# Altium footprint library MLACH0_9.PCBLIB: 97 footprints (part 5 of 7)
Each footprint in its own frame and in the unit in brackets; x right, y up, seen from the top. Pads: shape width x height; smd on the part's side, far side on the other; paste and mask are expansions set on the pad; w line width, h text height; cw(c..) or ccw(c..) is an arc to the next point about the centre after c.
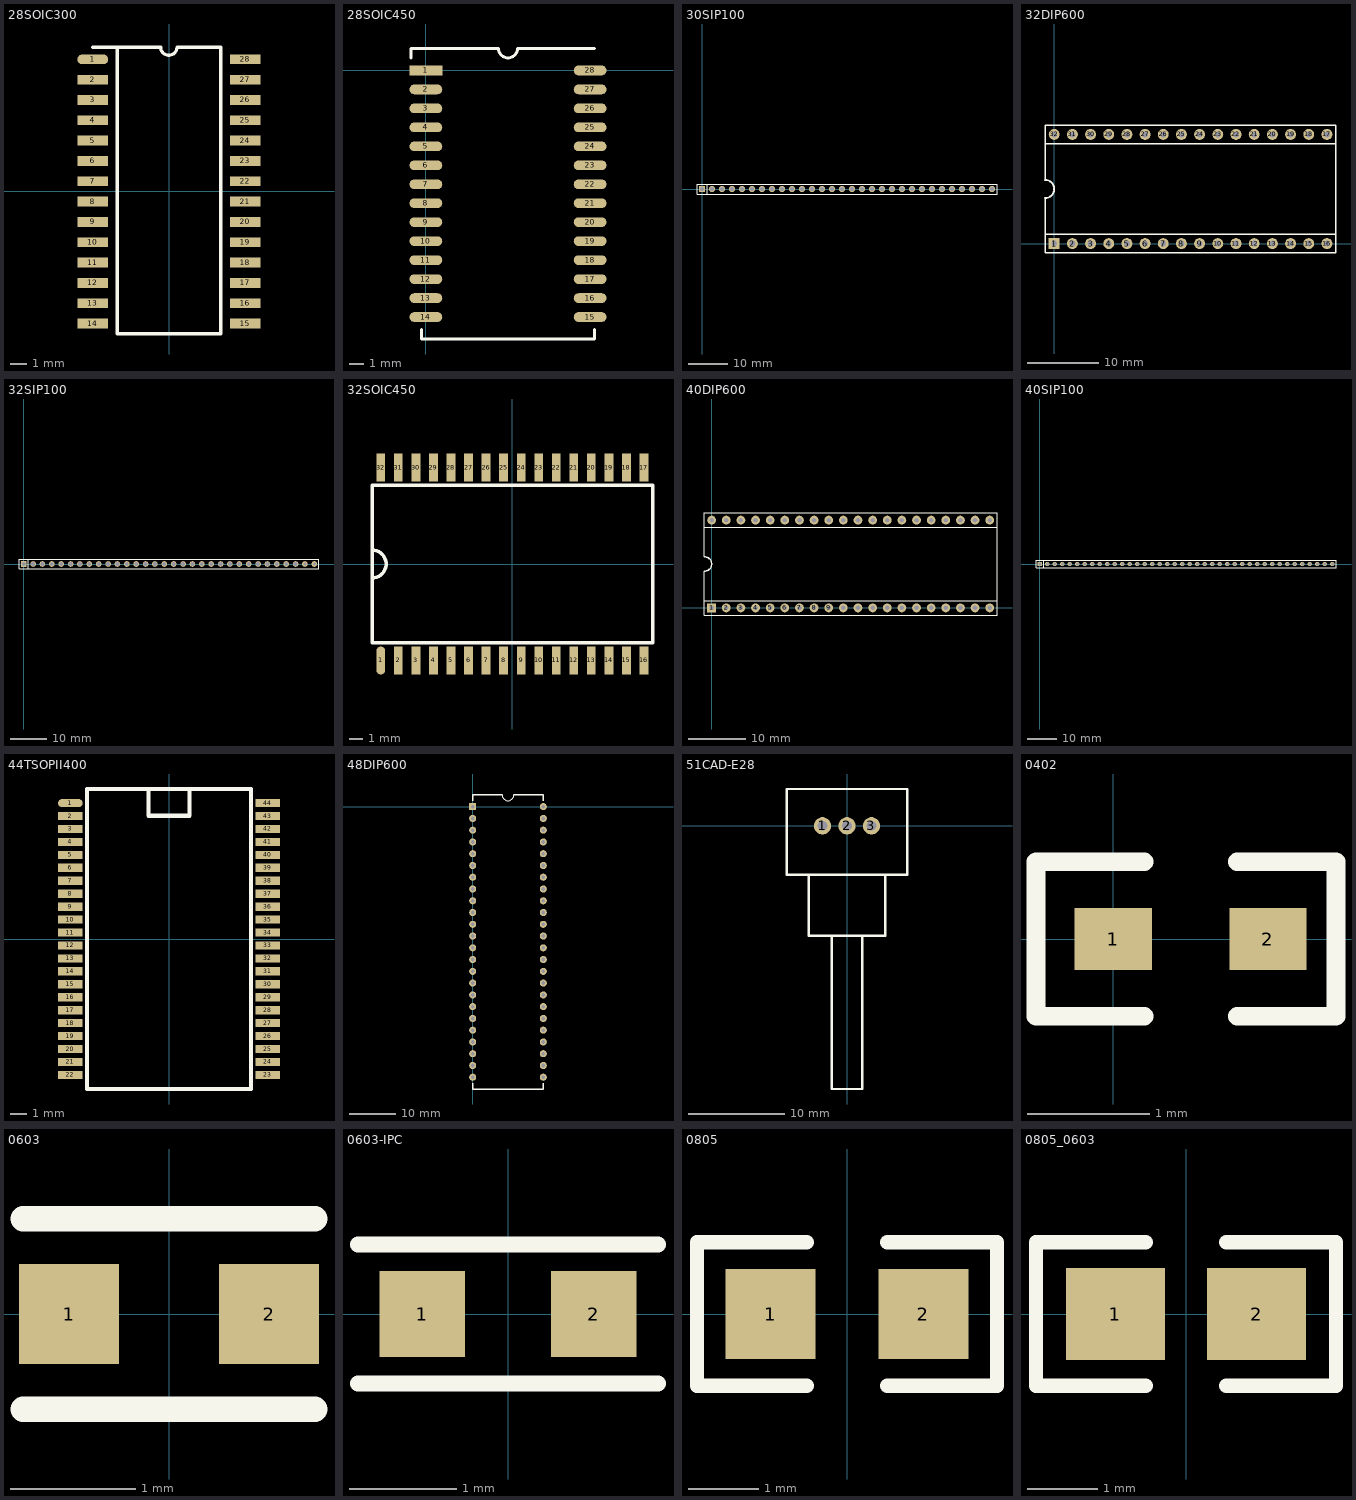
[diagram p4: the footprints below, top view; thin cyan lines are the x and y axes]

## 28SOIC300 [mil]
pads (28):
  oval 76x24 smd: 1(-187.5,325)
  rect 76x24 smd: 2(-187.5,275) 3(-187.5,225) 4(-187.5,175) 5(-187.5,125) 6(-187.5,75) 7(-187.5,25) 8(-187.5,-25) 9(-187.5,-75) 10(-187.5,-125) 11(-187.5,-175) 12(-187.5,-225) 13(-187.5,-275) 14(-187.5,-325) 15(187.5,-325) 16(187.5,-275) 17(187.5,-225) 18(187.5,-175) 19(187.5,-125) 20(187.5,-75) 21(187.5,-25) 22(187.5,25) 23(187.5,75) 24(187.5,125) 25(187.5,175) 26(187.5,225) 27(187.5,275) 28(187.5,325)
TopOverlay:
  lines w8: -187.5,355 -20.5,355 ccw(c-0.5,355) 19.5,355 127.5,355 127.5,-350 -127.5,-350 -127.5,355
3D body: height 39.37, standoff 0, extent 147.64,15.31 202.76,35
3D body: height 39.37, standoff 0, extent 147.64,315.31 202.76,335
3D body: height 39.37, standoff 0, extent 147.64,265.31 202.76,285
3D body: height 39.37, standoff 0, extent 147.64,215.31 202.76,235
3D body: height 39.37, standoff 0, extent 147.64,165.31 202.76,185
3D body: height 39.37, standoff 0, extent 147.64,115.31 202.76,135
3D body: height 39.37, standoff 0, extent 147.64,65.31 202.76,85
3D body: height 39.37, standoff 0, extent 147.64,-34.69 202.76,-15
3D body: height 39.37, standoff 0, extent 147.64,-84.69 202.76,-65
3D body: height 39.37, standoff 0, extent 147.64,-134.69 202.76,-115
3D body: height 39.37, standoff 0, extent 147.64,-184.69 202.76,-165
3D body: height 39.37, standoff 0, extent 147.64,-234.69 202.76,-215
3D body: height 39.37, standoff 0, extent 147.64,-284.69 202.76,-265
3D body: height 39.37, standoff 0, extent 147.64,-284.69 202.76,-265
3D body: height 39.37, standoff 0, extent 147.64,-334.69 202.76,-315
3D body: height 39.37, standoff 0, extent -202.76,-334.69 -147.64,-315
3D body: height 39.37, standoff 0, extent -202.76,-284.69 -147.64,-265
3D body: height 39.37, standoff 0, extent -202.76,-284.69 -147.64,-265
3D body: height 39.37, standoff 0, extent -202.76,-234.69 -147.64,-215
3D body: height 39.37, standoff 0, extent -202.76,-184.69 -147.64,-165
3D body: height 39.37, standoff 0, extent -202.76,-134.69 -147.64,-115
3D body: height 39.37, standoff 0, extent -202.76,-84.69 -147.64,-65
3D body: height 39.37, standoff 0, extent -202.76,-34.69 -147.64,-15
3D body: height 39.37, standoff 0, extent -202.76,65.31 -147.64,85
3D body: height 39.37, standoff 0, extent -202.76,115.31 -147.64,135
3D body: height 39.37, standoff 0, extent -202.76,165.31 -147.64,185
3D body: height 39.37, standoff 0, extent -202.76,215.31 -147.64,235
3D body: height 39.37, standoff 0, extent -202.76,265.31 -147.64,285
3D body: height 39.37, standoff 0, extent -202.76,315.31 -147.64,335
3D body: height 39.37, standoff 0, extent -202.76,15.31 -147.64,35
3D body: height 82.68, standoff 0, extent -147.64,-354.33 147.64,354.33

## 28SOIC450 [mm]
pads (28):
  rect 2.2x0.65 smd: 1(0,0)
  oval 2.2x0.65 smd: 2(0,-1.27) 3(0,-2.54) 4(0,-3.81) 5(0,-5.08) 6(0,-6.35) 7(0,-7.62) 8(0,-8.89) 9(0,-10.16) 10(0,-11.43) 11(0,-12.7) 12(0,-13.97) 13(0,-15.24) 14(0,-16.51) 15(11,-16.51) 16(11,-15.24) 17(11,-13.97) 18(11,-12.7) 19(11,-11.43) 20(11,-10.16) 21(11,-8.89) 22(11,-7.62) 23(11,-6.35) 24(11,-5.08) 25(11,-3.81) 26(11,-2.54) 27(11,-1.27) 28(11,0)
TopOverlay:
  lines w0.2: -1,0.825 -1,1.47 4.865,1.47 ccw(c5.5,1.47) 6.135,1.47 11.28,1.47 ; -0.28,-17.335 -0.28,-17.98 11.28,-17.98 11.28,-17.335

## 30SIP100 [mil]
pads (30):
  rect 60x60 hole 40: 1(0,0)
  round 60 hole 40: 2(100,0) 3(200,0) 4(300,0) 5(400,0) 6(500,0) 7(600,0) 8(700,0) 9(800,0) 10(900,0) 11(1000,0) 12(1100,0) 13(1200,0) 14(1300,0) 15(1400,0) 16(1500,0) 17(1600,0) 18(1700,0) 19(1800,0) 20(1900,0) 21(2000,0) 22(2100,0) 23(2200,0) 24(2300,0) 25(2400,0) 26(2500,0) 27(2600,0) 28(2700,0) 29(2800,0) 30(2900,0)
TopOverlay:
  lines w8: 50,-50 50,50 ; -50,-50 2950,-50 2950,50 -50,50 -50,-50

## 32DIP600 [mil]
pads (32):
  rect 60x60 hole 32: 1(0,0)
  round 60 hole 32: 2(100,0) 3(200,0) 4(300,0) 5(400,0) 6(500,0) 7(600,0) 8(700,0) 9(800,0) 10(900,0) 11(1000,0) 12(1100,0) 13(1200,0) 14(1300,0) 15(1400,0) 16(1500,0) 17(1500,600) 18(1400,600) 19(1300,600) 20(1200,600) 21(1100,600) 22(1000,600) 23(900,600) 24(800,600) 25(700,600) 26(600,600) 27(500,600) 28(400,600) 29(300,600) 30(200,600) 31(100,600) 32(0,600)
TopOverlay:
  lines w8: -50,250 -50,50 ; -50,350 -50,550 ; -50,50 1550,50 ; -50,50 -50,-50 1550,-50 1550,50 ; -50,550 1550,550 ; -50,550 -50,650 1550,650 1550,550 ; 1550,50 1550,550
  lines w10: -50,250 ccw(c-50,300) -50,350

## 32SIP100 [mil]
pads (32):
  rect 60x60 hole 40: 1(0,0)
  round 60 hole 40: 2(100,0) 3(200,0) 4(300,0) 5(400,0) 6(500,0) 7(600,0) 8(700,0) 9(800,0) 10(900,0) 11(1000,0) 12(1100,0) 13(1200,0) 14(1300,0) 15(1400,0) 16(1500,0) 17(1600,0) 18(1700,0) 19(1800,0) 20(1900,0) 21(2000,0) 22(2100,0) 23(2200,0) 24(2300,0) 25(2400,0) 26(2500,0) 27(2600,0) 28(2700,0) 29(2800,0) 30(2900,0)
  round 60 hole 32: 31(3000,0) 32(3100,0)
TopOverlay:
  lines w8: 50,-50 50,50 ; -50,-50 -50,50 3150,50 3150,-50 -50,-50

## 32SOIC450 [mil]
pads (32):
  oval 25x80 smd: 1(-375,-275)
  rect 25x80 smd: 2(-325,-275) 3(-275,-275) 4(-225,-275) 5(-175,-275) 6(-125,-275) 7(-75,-275) 8(-25,-275) 9(25,-275) 10(75,-275) 11(125,-275) 12(175,-275) 13(225,-275) 14(275,-275) 15(325,-275) 16(375,-275) 17(375,275) 18(325,275) 19(275,275) 20(225,275) 21(175,275) 22(125,275) 23(75,275) 24(25,275) 25(-25,275) 26(-75,275) 27(-125,275) 28(-175,275) 29(-225,275) 30(-275,275) 31(-325,275) 32(-375,275)
TopOverlay:
  lines w10: -400,-40 ccw(c-400,0) -400,40 ; -400,-225 400,-225 400,225 -400,225 -400,-225

## 40DIP600 [mil]
pads (40):
  rect 60x60 hole 32: 1(0,0)
  round 60 hole 32: 2(100,0) 3(200,0) 4(300,0) 5(400,0) 6(500,0) 7(600,0) 8(700,0) 9(800,0) 10(900,0) 11(1000,0) 12(1100,0) 13(1200,0) 14(1300,0) 15(1400,0) 16(1500,0) 17(1600,0) 18(1700,0) 19(1800,0) 20(1900,0) 21(1900,600) 22(1800,600) 23(1700,600) 24(1600,600) 25(1500,600) 26(1400,600) 27(1300,600) 28(1200,600) 29(1100,600) 30(1000,600) 31(900,600) 32(800,600) 33(700,600) 34(600,600) 35(500,600) 36(400,600) 37(300,600) 38(200,600) 39(100,600) 40(0,600)
TopOverlay:
  lines w8: -50,250 -50,50 ; -50,350 -50,550 ; -50,50 1950,50 ; -50,50 -50,-50 1950,-50 1950,50 ; -50,550 1950,550 ; -50,550 -50,650 1950,650 1950,550 ; 1950,50 1950,550
  lines w10: -50,250 ccw(c-50,300) -50,350

## 40SIP100 [mil]
pads (40):
  rect 60x60 hole 40: 1(0,0)
  round 60 hole 40: 2(100,0) 3(200,0) 4(300,0) 5(400,0) 6(500,0) 7(600,0) 8(700,0) 9(800,0) 10(900,0) 11(1000,0) 12(1100,0) 13(1200,0) 14(1300,0) 15(1400,0) 16(1500,0) 17(1600,0) 18(1700,0) 19(1800,0) 20(1900,0) 21(2000,0) 22(2100,0) 23(2200,0) 24(2300,0) 25(2400,0) 26(2500,0) 27(2600,0) 28(2700,0) 29(2800,0) 30(2900,0) 31(3000,0) 32(3100,0) 33(3200,0) 34(3300,0) 35(3400,0) 36(3500,0) 37(3600,0) 38(3700,0) 39(3800,0) 40(3900,0)
TopOverlay:
  lines w8: 50,-50 50,50 ; -50,-50 -50,50 3950,50 3950,-50 -50,-50

## 44TSOPII400 [mil]
pads (44):
  oval 60x20 smd: 1(-240.16,330.71)
  rect 60x20 smd: 2(-240.16,299.21) 3(-240.16,267.72) 4(-240.16,236.22) 5(-240.16,204.72) 6(-240.16,173.23) 7(-240.16,141.73) 8(-240.16,110.24) 9(-240.16,78.74) 10(-240.16,47.24) 11(-240.16,15.75) 12(-240.16,-15.75) 13(-240.16,-47.24) 14(-240.16,-78.74) 15(-240.16,-110.24) 16(-240.16,-141.73) 17(-240.16,-173.23) 18(-240.16,-204.72) 19(-240.16,-236.22) 20(-240.16,-267.72) 21(-240.16,-299.21) 22(-240.16,-330.71) 23(240.16,-330.71) 24(240.16,-299.21) 25(240.16,-267.72) 26(240.16,-236.22) 27(240.16,-204.72) 28(240.16,-173.23) 29(240.16,-141.73) 30(240.16,-110.24) 31(240.16,-78.74) 32(240.16,-47.24) 33(240.16,-15.75) 34(240.16,15.75) 35(240.16,47.24) 36(240.16,78.74) 37(240.16,110.24) 38(240.16,141.73) 39(240.16,173.23) 40(240.16,204.72) 41(240.16,236.22) 42(240.16,267.72) 43(240.16,299.21) 44(240.16,330.71)
TopOverlay:
  lines w10: -50,365 -50,300 50,300 50,365 ; -200,-365 -200,365 200,365 200,-365 -200,-365

## 48DIP600 [mil]
pads (48):
  rect 60x60 hole 32: 1(0,0)
  round 60 hole 32: 2(0,-100) 3(0,-200) 4(0,-300) 5(0,-400) 6(0,-500) 7(0,-600) 8(0,-700) 9(0,-800) 10(0,-900) 11(0,-1000) 12(0,-1100) 13(0,-1200) 14(0,-1300) 15(0,-1400) 16(0,-1500) 17(0,-1600) 18(0,-1700) 19(0,-1800) 20(0,-1900) 21(0,-2000) 22(0,-2100) 23(0,-2200) 24(0,-2300) 25(600,-2300) 26(600,-2200) 27(600,-2100) 28(600,-2000) 29(600,-1900) 30(600,-1800) 31(600,-1700) 32(600,-1600) 33(600,-1500) 34(600,-1400) 35(600,-1300) 36(600,-1200) 37(600,-1100) 38(600,-1000) 39(600,-900) 40(600,-800) 41(600,-700) 42(600,-600) 43(600,-500) 44(600,-400) 45(600,-300) 46(600,-200) 47(600,-100) 48(600,0)
TopOverlay:
  lines w10: 250,100 ccw(c300,100) 350,100
  lines w12: 0,-2350 0,-2400 600,-2400 600,-2350 ; 0,50 0,100 250,100 ; 350,100 600,100 600,50

## 51CAD-E28 [mm]
pads (3):
  round 1.8 hole 1: 1(-2.54,0) 2(0,0) 3(2.54,0)
TopOverlay:
  lines w0.254: -3.97,-5.08 -3.97,-11.43 3.97,-11.43 3.97,-5.08 ; -1.59,-11.43 -1.59,-27.31 1.59,-27.31 1.59,-11.43 ; -6.25,-5.08 6.25,-5.08 6.25,3.82 -6.25,3.82 -6.25,-5.08
3D body: height 13.25, standoff 0, extent -6.25,-5.08 6.25,3.82
3D body: height 10.96, standoff 3.04, extent -3.97,-11.375 3.939,-5.025
3D body: height 8.59, standoff 5.41, extent -1.59,-27.31 1.577,-11.31

## 0402 [mil]
pads (2):
  rect 25x20 smd: 1(0,0) 2(50,0)
TopOverlay:
  lines w6: 10,-25 -25,-25 -25,25 10,25 ; 40,-25 72,-25 72,25 40,25

## 0603 [mm]
pads (2):
  rect 0.8x0.8 smd: 1(-0.8,0) 2(0.8,0)
TopOverlay:
  lines w0.203: -1.168,-0.762 1.168,-0.762 ; -1.168,0.762 1.168,0.762
3D body: height 1, standoff 0, extent -0.8,-0.4 -0.3,0.4
3D body: height 1, standoff 0, extent 0.4,-0.4 0.8,0.4
3D body: height 1, standoff 0, extent -0.3,-0.4 0.4,0.4

## 0603-IPC [mm]
pads (2):
  rect 0.8x0.8 smd: 1(-0.8,0) 2(0.8,0)
TopOverlay:
  lines w0.15: -1.4,-0.65 1.4,-0.65 ; -1.4,0.65 1.4,0.65
3D body: height 1, standoff 0, extent 0.4,-0.4 0.8,0.4
3D body: height 1, standoff 0, extent -0.4,-0.4 0.4,0.4
3D body: height 1, standoff 0, extent -0.8,-0.4 -0.4,0.4

## 0805 [mil]
pads (2):
  rect 50x50 smd: 1(-42.5,0) 2(42.5,0)
TopOverlay:
  lines w8: -22.5,-40 -83.5,-40 -83.5,40 -22.5,40 ; 22.5,-40 83.5,-40 83.5,40 22.5,40
3D body: height 51.18, standoff 0, extent 27.56,-27.56 39.37,27.56
3D body: height 51.18, standoff 0, extent -39.37,-27.56 -27.56,27.56
3D body: height 51.18, standoff 0, extent -27.56,-27.56 27.56,27.56

## 0805_0603 [mm]
pads (2):
  rect 1.4x1.3 smd: 1(-1,0) 2(1,0)
TopOverlay:
  lines w0.203: -0.572,-1.016 -2.121,-1.016 -2.121,1.016 -0.572,1.016 ; 0.572,-1.016 2.121,-1.016 2.121,1.016 0.572,1.016
3D body: height 1, standoff 0, extent -0.3,-0.4 0.4,0.4
3D body: height 1, standoff 0, extent 0.4,-0.4 0.8,0.4
3D body: height 1, standoff 0, extent -0.8,-0.4 -0.3,0.4
3D body: height 1.3, standoff 0, extent 0.7,-0.7 1,0.7
3D body: height 1.3, standoff 0, extent -1,-0.7 -0.7,0.7
3D body: height 1.3, standoff 0, extent -0.7,-0.7 0.7,0.7